# Altium footprint library Flash_Memory.PcbLib: 1 footprints
Each footprint in its own frame and in the unit in brackets; x right, y up, seen from the top. Pads: shape width x height; smd on the part's side, far side on the other; paste and mask are expansions set on the pad; w line width, h text height; cw(c..) or ccw(c..) is an arc to the next point about the centre after c.
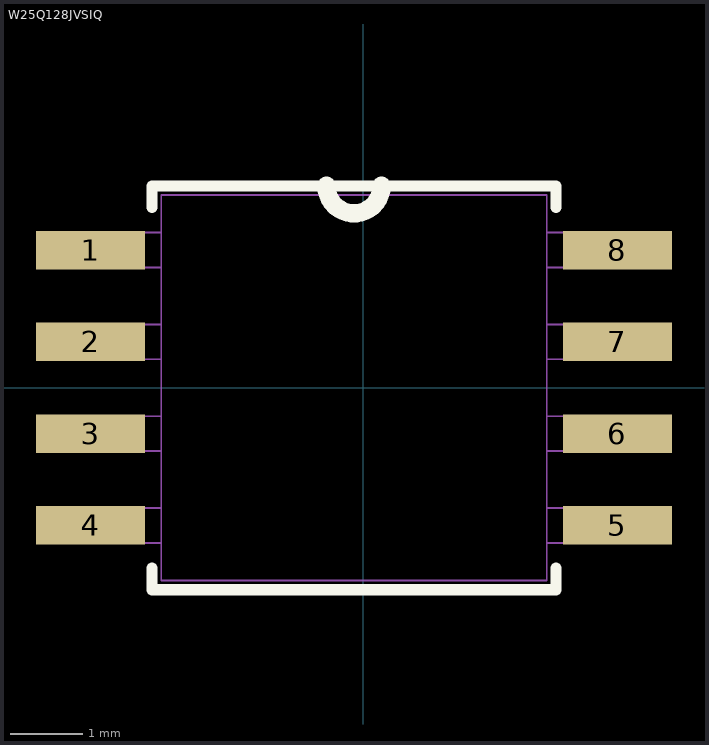
[diagram p0: the footprint, top view; thin cyan lines are the x and y axes]

## W25Q128JVSIQ [mil] "NOR Flash spiFlash, 3V, 128M-bit, 4Kb Uniform Sector"
pads (8):
  rect 59.56x20.97 smd paste+0 mask+1.97: 1(-148.5,75) 2(-148.5,25) 3(-148.5,-25) 4(-148.5,-75) 5(138.5,-75) 6(138.5,-25) 7(138.5,25) 8(138.5,75)
Top Overlay:
  lines w6: -115,-98.04 -115,-110 105,-110 105,-98.04 ; -115,98.04 -115,110 105,110 105,98.04
  lines w10: -20,110 ccw(c-5,110) 10,110
Mechanical 1:
  text ".Designator" at 3.94,12.73 h26.38
Mechanical 13:
  lines w1: -17,105 ccw(c-5,105) 7,105 ; -164.5,-84.5 -110,-84.5 -110,-65.5 -164.5,-65.5 -164.5,-84.5 ; -164.5,-34.5 -110,-34.5 -110,-15.5 -164.5,-15.5 -164.5,-34.5 ; -164.5,15.5 -110,15.5 -110,34.5 -164.5,34.5 -164.5,15.5 ; -164.5,65.5 -110,65.5 -110,84.5 -164.5,84.5 -164.5,65.5 ; -110,-105 -110,105 100,105 100,-105 -110,-105 ; 100,-84.5 154.5,-84.5 154.5,-65.5 100,-65.5 100,-84.5 ; 100,-34.5 154.5,-34.5 154.5,-15.5 100,-15.5 100,-34.5 ; 100,15.5 154.5,15.5 154.5,34.5 100,34.5 100,15.5 ; 100,65.5 154.5,65.5 154.5,84.5 100,84.5 100,65.5
3D body "SOIC_128JVSIQ_WIN.step": height 85.12, standoff 0, extent -164.49,-105 154.49,105